# EAGLE library part DPC31 (library micro-siemens)
DPC31 Siemens PROFIBUS-DP Controller mit C31 Core Suurce: dpc31_d.pdf
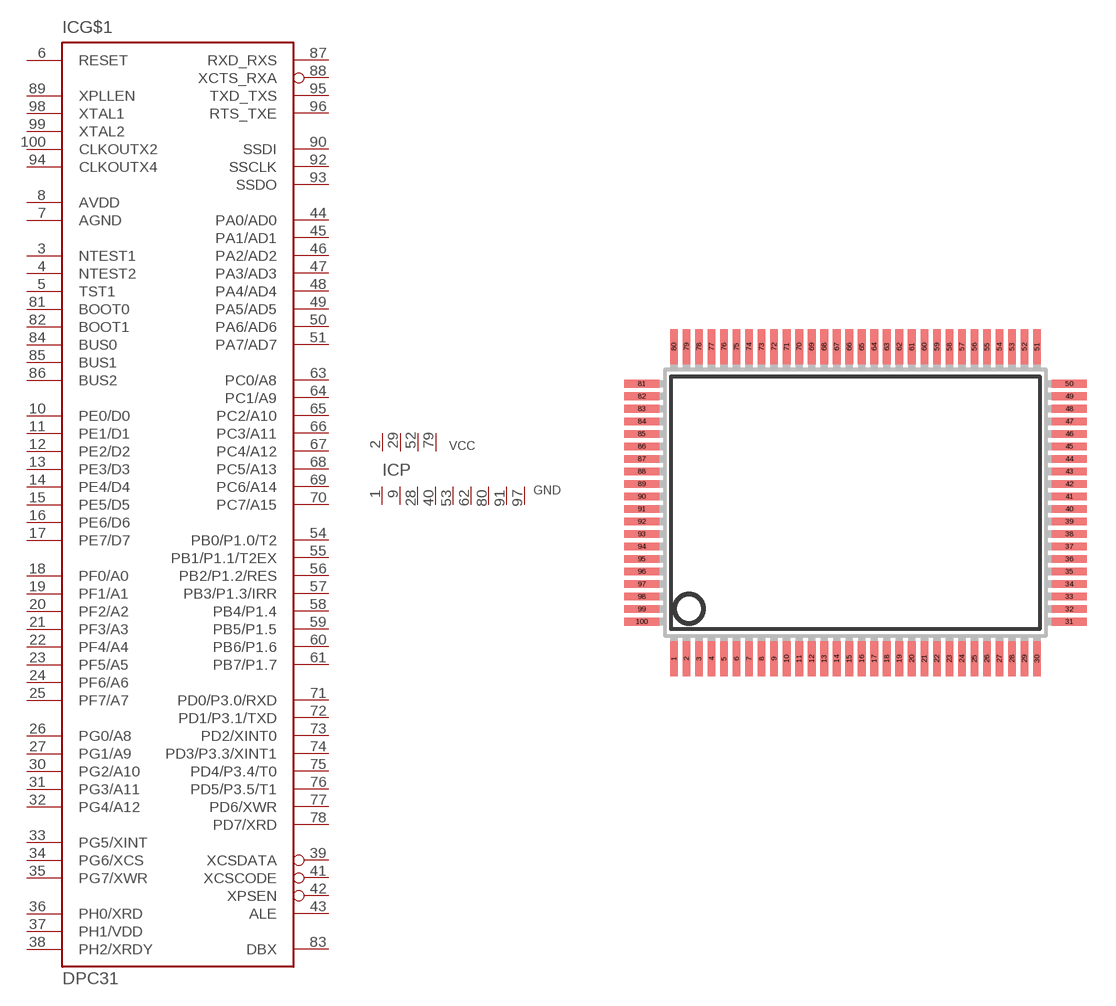
[diagram p16: symbol with the pads of QFP100R; footprint QFP100R]

Designator prefix IC; gates G$1=DPC31 P=DPC31-P

## DPC31 (OC_FARNELL: unknown; OC_NEWARK: unknown)  [QFP100R]
1  P:GND  pwr
2  P:VCC  pwr
3  G$1:NTEST1  in
4  G$1:NTEST2  in
5  G$1:TST1  in
6  G$1:RESET  in
7  G$1:AGND  pwr
8  G$1:AVDD  pwr
9  P:GND  pwr
10  G$1:PE0/D0
11  G$1:PE1/D1
12  G$1:PE2/D2
13  G$1:PE3/D3
14  G$1:PE4/D4
15  G$1:PE5/D5
16  G$1:PE6/D6
17  G$1:PE7/D7
18  G$1:PF0/A0  in
19  G$1:PF1/A1  in
20  G$1:PF2/A2  in
21  G$1:PF3/A3  in
22  G$1:PF4/A4  in
23  G$1:PF5/A5  in
24  G$1:PF6/A6  in
25  G$1:PF7/A7  in
26  G$1:PG0/A8  in
27  G$1:PG1/A9  in
28  P:GND  pwr
29  P:VCC  pwr
30  G$1:PG2/A10  in
31  G$1:PG3/A11  in
32  G$1:PG4/A12  in
33  G$1:PG5/XINT  out
34  G$1:PG6/XCS  in
35  G$1:PG7/XWR  in
36  G$1:PH0/XRD  in
37  G$1:PH1/VDD  in
38  G$1:PH2/XRDY  out
39  G$1:XCSDATA  out
40  P:GND  pwr
41  G$1:XCSCODE  out
42  G$1:XPSEN  out
43  G$1:ALE  out
44  G$1:PA0/AD0
45  G$1:PA1/AD1
46  G$1:PA2/AD2
47  G$1:PA3/AD3
48  G$1:PA4/AD4
49  G$1:PA5/AD5
50  G$1:PA6/AD6
51  G$1:PA7/AD7
52  P:VCC  pwr
53  P:GND  pwr
54  G$1:PB0/P1.0/T2
55  G$1:PB1/P1.1/T2EX
56  G$1:PB2/P1.2/RES
57  G$1:PB3/P1.3/IRR
58  G$1:PB4/P1.4
59  G$1:PB5/P1.5
60  G$1:PB6/P1.6
61  G$1:PB7/P1.7
62  P:GND  pwr
63  G$1:PC0/A8  out
64  G$1:PC1/A9  out
65  G$1:PC2/A10  out
66  G$1:PC3/A11  out
67  G$1:PC4/A12  out
68  G$1:PC5/A13  out
69  G$1:PC6/A14  out
70  G$1:PC7/A15  out
71  G$1:PD0/P3.0/RXD
72  G$1:PD1/P3.1/TXD
73  G$1:PD2/XINT0
74  G$1:PD3/P3.3/XINT1
75  G$1:PD4/P3.4/T0
76  G$1:PD5/P3.5/T1
77  G$1:PD6/XWR
78  G$1:PD7/XRD
79  P:VCC  pwr
80  P:GND  pwr
81  G$1:BOOT0  in
82  G$1:BOOT1  in
83  G$1:DBX  in
84  G$1:BUS0  in
85  G$1:BUS1  in
86  G$1:BUS2  in
87  G$1:RXD_RXS  in
88  G$1:XCTS_RXA  in
89  G$1:XPLLEN  in
90  G$1:SSDI  in
91  P:GND  pwr
92  G$1:SSCLK  out
93  G$1:SSDO  out
94  G$1:CLKOUTX4  out
95  G$1:TXD_TXS  out
96  G$1:RTS_TXE  out
97  P:GND  pwr
98  G$1:XTAL1  in
99  G$1:XTAL2  out
100  G$1:CLKOUTX2  out

## Footprint QFP100R (pad centres in mm)
Quad Flat Pack Package 100 Pin Rectangle Source: Siemens dpc31_d.pdf
smd 0.4 x 1.8: 1 -9.425,-8.1; 2 -8.775,-8.1; 3 -8.125,-8.1; 4 -7.475,-8.1; 5 -6.825,-8.1; 6 -6.175,-8.1; 7 -5.525,-8.1; 8 -4.875,-8.1; 9 -4.225,-8.1; 10 -3.575,-8.1; 11 -2.925,-8.1; 12 -2.275,-8.1; 13 -1.625,-8.1; 14 -0.975,-8.1; 15 -0.325,-8.1; 16 0.325,-8.1; 17 0.975,-8.1; 18 1.625,-8.1; 19 2.275,-8.1; 20 2.925,-8.1; 21 3.575,-8.1; 22 4.225,-8.1; 23 4.875,-8.1; 24 5.525,-8.1; 25 6.175,-8.1; 26 6.825,-8.1; 27 7.475,-8.1; 28 8.125,-8.1; 29 8.775,-8.1; 30 9.425,-8.1; 51 9.425,8.1; 52 8.775,8.1; 53 8.125,8.1; 54 7.475,8.1; 55 6.825,8.1; 56 6.175,8.1; 57 5.525,8.1; 58 4.875,8.1; 59 4.225,8.1; 60 3.575,8.1; 61 2.925,8.1; 62 2.275,8.1; 63 1.625,8.1; 64 0.975,8.1; 65 0.325,8.1; 66 -0.325,8.1; 67 -0.975,8.1; 68 -1.625,8.1; 69 -2.275,8.1; 70 -2.925,8.1; 71 -3.575,8.1; 72 -4.225,8.1; 73 -4.875,8.1; 74 -5.525,8.1; 75 -6.175,8.1; 76 -6.825,8.1; 77 -7.475,8.1; 78 -8.125,8.1; 79 -8.775,8.1; 80 -9.425,8.1
smd 1.8 x 0.4: 31 11.1,-6.175; 32 11.1,-5.525; 33 11.1,-4.875; 34 11.1,-4.225; 35 11.1,-3.575; 36 11.1,-2.925; 37 11.1,-2.275; 38 11.1,-1.625; 39 11.1,-0.975; 40 11.1,-0.325; 41 11.1,0.325; 42 11.1,0.975; 43 11.1,1.625; 44 11.1,2.275; 45 11.1,2.925; 46 11.1,3.575; 47 11.1,4.225; 48 11.1,4.875; 49 11.1,5.525; 50 11.1,6.175; 81 -11.1,6.175; 82 -11.1,5.525; 83 -11.1,4.875; 84 -11.1,4.225; 85 -11.1,3.575; 86 -11.1,2.925; 87 -11.1,2.275; 88 -11.1,1.625; 89 -11.1,0.975; 90 -11.1,0.325; 91 -11.1,-0.325; 92 -11.1,-0.975; 93 -11.1,-1.625; 94 -11.1,-2.275; 95 -11.1,-2.925; 96 -11.1,-3.575; 97 -11.1,-4.225; 98 -11.1,-4.875; 99 -11.1,-5.525; 100 -11.1,-6.175